# Altium footprint library DIP2X5TE.PcbLib: 1 footprints
Each footprint in its own frame and in the unit in brackets; x right, y up, seen from the top. Pads: shape width x height; smd on the part's side, far side on the other; paste and mask are expansions set on the pad; w line width, h text height; cw(c..) or ccw(c..) is an arc to the next point about the centre after c.
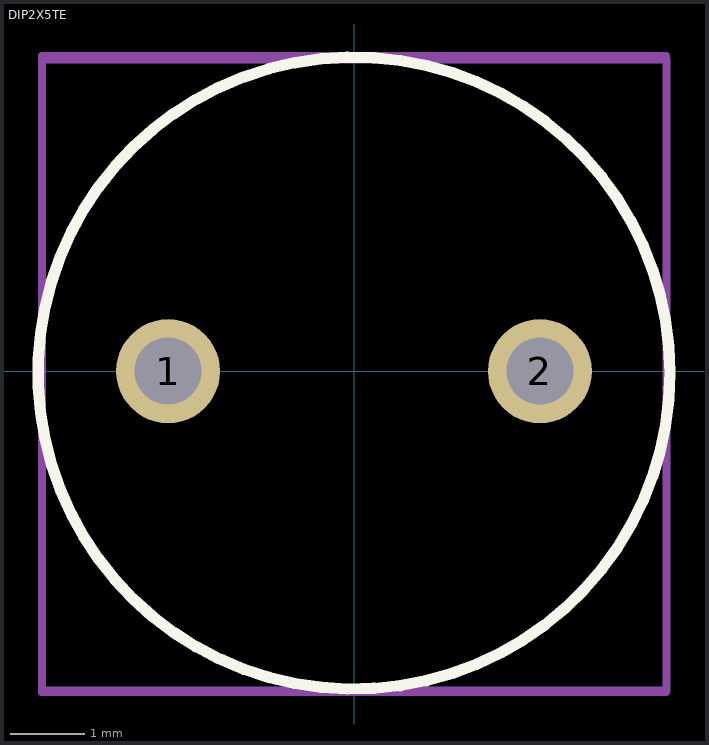
[diagram p0: the footprint, top view; thin cyan lines are the x and y axes]

## DIP2X5TE [mm] "DIP2X5TE W 4mm L8.4mm"
height 25
pads (2):
  round 1.4 hole 0.9: 1(-2.5,0) 2(2.5,0)
Top Overlay:
  circle w0.152: c0,-0.025 r4.25
Mechanical 13:
  lines w0.1: -4.191,-4.293 4.209,-4.293 4.209,4.191 -4.191,4.191 -4.191,-4.293
Mechanical 15:
  lines w0.1: -4.2,-4.318 -4.2,4.242 4.2,4.242 4.2,-4.318 -4.2,-4.318
3D body: height 6.9, standoff -7.4, extent -4.242,-4.25 4.242,4.216